# EAGLE library part AM29LV004E (library am29-memory)
4-Megabit FLASH MEMORY (512 K x 8 bit) CMOS 3 V-only boot sector flash memory
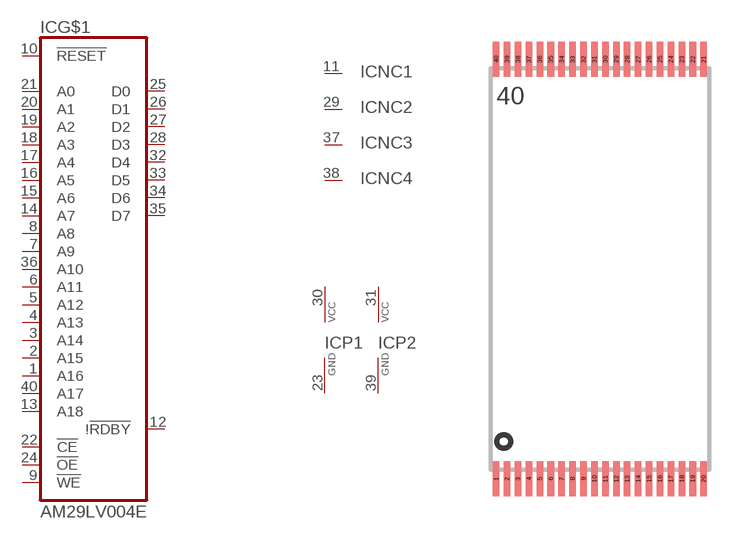
[diagram p12: symbol with the pads of TSOP40; footprint TSOP40]

Designator prefix IC; gates G$1=29LV004 NC1=NC P1=VCC-GND P2=VCC-GND NC2=NC NC3=NC NC4=NC

## AM29LV004E  [TSOP40]
1  G$1:A16  in
2  G$1:A15  in
3  G$1:A14  in
4  G$1:A13  in
5  G$1:A12  in
6  G$1:A11  in
7  G$1:A9  in
8  G$1:A8  in
9  G$1:!WE  in
10  G$1:!RESET  in
11  NC1:NC  nc
12  G$1:!!RDBY  out
13  G$1:A18  in
14  G$1:A7  in
15  G$1:A6  in
16  G$1:A5  in
17  G$1:A4  in
18  G$1:A3  in
19  G$1:A2  in
20  G$1:A1  in
21  G$1:A0  in
22  G$1:!CE  in
23  P1:GND  pwr
24  G$1:!OE  in
25  G$1:D0  hiz
26  G$1:D1  hiz
27  G$1:D2  hiz
28  G$1:D3  hiz
29  NC2:NC  nc
30  P1:VCC  pwr
31  P2:VCC  pwr
32  G$1:D4  hiz
33  G$1:D5  hiz
34  G$1:D6  hiz
35  G$1:D7  hiz
36  G$1:A10  in
37  NC3:NC  nc
38  NC4:NC  nc
39  P2:GND  pwr
40  G$1:A17  in

## Footprint TSOP40 (pad centres in mm)
Thin Small Outline Plastic Package
smd 0.3 x 1.6: 1 -4.75,-9.6; 2 -4.25,-9.6; 3 -3.75,-9.6; 4 -3.25,-9.6; 5 -2.75,-9.6; 6 -2.25,-9.6; 7 -1.75,-9.6; 8 -1.25,-9.6; 9 -0.75,-9.6; 10 -0.25,-9.6; 11 0.25,-9.6; 12 0.75,-9.6; 13 1.25,-9.6; 14 1.75,-9.6; 15 2.25,-9.6; 16 2.75,-9.6; 17 3.25,-9.6; 18 3.75,-9.6; 19 4.25,-9.6; 20 4.75,-9.6; 21 4.75,9.6; 22 4.25,9.6; 23 3.75,9.6; 24 3.25,9.6; 25 2.75,9.6; 26 2.25,9.6; 27 1.75,9.6; 28 1.25,9.6; 29 0.75,9.6; 30 0.25,9.6; 31 -0.25,9.6; 32 -0.75,9.6; 33 -1.25,9.6; 34 -1.75,9.6; 35 -2.25,9.6; 36 -2.75,9.6; 37 -3.25,9.6; 38 -3.75,9.6; 39 -4.25,9.6; 40 -4.75,9.6